# Altium integrated library 基地库3.0mini.IntLib: 84 symbols
Pins are listed as number, name and electrical type; pins without a type are passive.

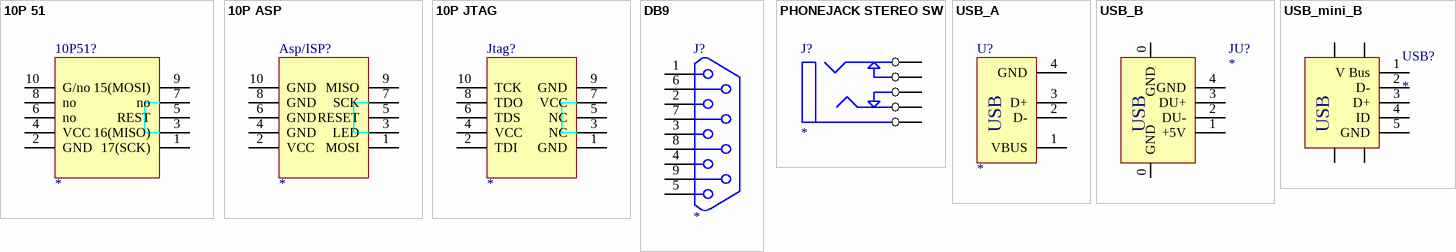
[diagram p0: symbols 10P 51 to USB_mini_B]

## 10P 51
designator 10P51?
footprint 10DIP
footprint 10TDIP
pins: 1 17(SCK), 2 GND, 3 16(MISO), 4 VCC, 5 REST, 6 no, 7 no, 8 no, 9 15(MOSI), 10 G/no

## 10P ASP
designator Asp/ISP?
footprint 10DIP
footprint 10TDIP
pins: 1 MOSI, 2 VCC, 3 LED, 4 GND, 5 RESET, 6 GND, 7 SCK, 8 GND, 9 MISO, 10 GND

## 10P JTAG
designator Jtag?
footprint 10DIP
footprint 10TDIP
pins: 1 GND, 2 TDI, 3 NC, 4 VCC, 5 NC, 6 TDS, 7 VCC, 8 TDO, 9 GND, 10 TCK

## DB9
designator J?
footprint DB9FL
pins: 1, 2, 3, 4, 5, 6, 7, 8, 9

## PHONEJACK STEREO SW
designator J?
footprint SOUND1
footprint SOUND1_B (14mm¡Á11mm)
pins: 1 A, 2 B, 3 C, 4 D, 5 E

## USB_A
designator U?
footprint USB2
pins: 1 VBUS, 2 D-, 3 D+, 4 GND
text: USB

## USB_B
designator JU?
footprint USB1
pins: 0 GND, 0 GND, 1 +5V, 2 DU-, 3 DU+, 4 GND
text: USB

## USB_mini_B
designator USB?
footprint USB_mini_B (mini USB ĸͷ)
pins: 0, 0, 0, 0, 1 V Bus, 2 D-, 3 D+, 4 ID, 5 GND
text: USB


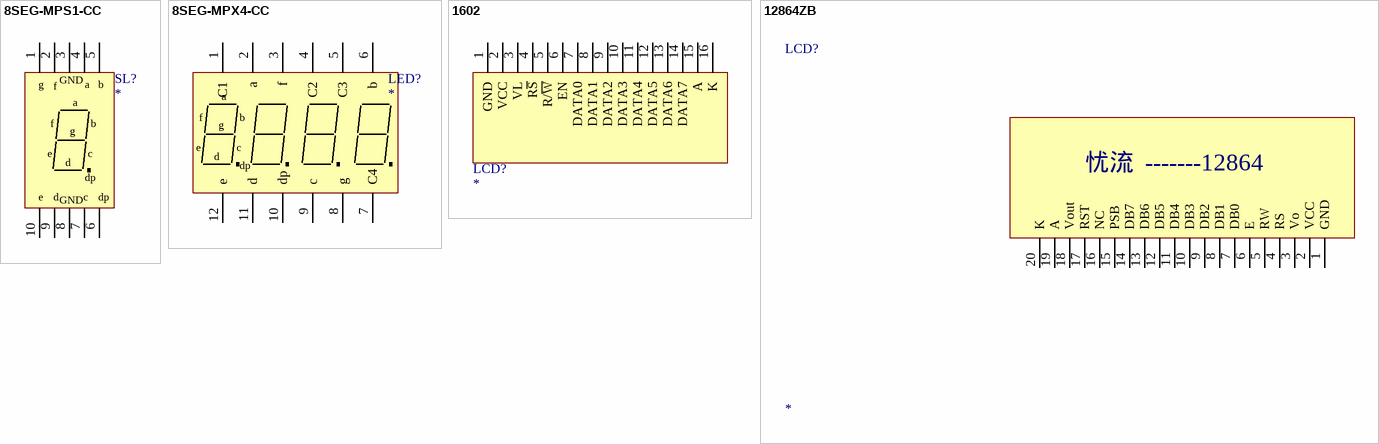
[diagram p1: symbols 8SEG-MPS1-CC to 12864ZB]

## 8SEG-MPS1-CC
designator SL?
footprint LM1
pins: 1, 2, 3, 4, 5, 6, 7, 8, 9, 10
text: GND; g; f; a; b; e; c; d; dp

## 8SEG-MPX4-CC
designator LED?
footprint 4in1
footprint 4in1B
pins: 1 C1, 2 a, 3 f, 4 C2, 5 C3, 6 b, 7 C4, 8 g, 9 c, 10 dp, 11 d, 12 e

## 1602
designator LCD?
footprint 1602
footprint 1602-1
footprint 1602A
pins: 1 GND, 2 VCC, 3 VL, 4 R~{S}, 5 R/~{W}, 6 EN, 7 DATA0, 8 DATA1, 9 DATA2, 10 DATA3, 11 DATA4, 12 DATA5, 13 DATA6, 14 DATA7, 15 A, 16 K

## 12864ZB
designator LCD?
footprint 12864ZB
pins: 1 GND, 2 VCC, 3 Vo, 4 RS, 5 RW, 6 E, 7 DB0, 8 DB1, 9 DB2, 10 DB3, 11 DB4, 12 DB5, 13 DB6, 14 DB7, 15 PSB, 16 NC, 17 RST, 18 Vout, 19 A, 20 K
text: 忧流; -------12864


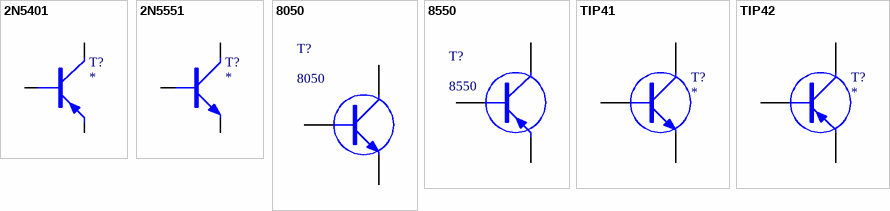
[diagram p2: symbols 2N5401 to TIP42]

## 2N5401
designator T?
PNP,小功率
footprint TO-92B
footprint TO-92A
pins: 1 E, 2 B, 3 C

## 2N5551
designator T?
NPN,小功率
footprint TO-92A
footprint TO-92B
pins: 1 E, 2 B, 3 C

## 8050
designator T?
NPN型三极管
footprint STO-23; pin to pad 1>2 2>1
footprint TO-92A
footprint TO-92B
footprint TO-92C
pins: 1 E, 2 B, 3 C

## 8550
designator T?
PNP型三极管
footprint STO-23; pin to pad 2>1 3>2
footprint TO-92A
footprint TO-92B
footprint TO-92C
pins: 1 E, 2 B, 3 C

## TIP41
designator T?
NPN PLASTIC POWER TRANSISTORS
footprint TO-220
pins: 1 B, 2 C, 3 E

## TIP42
designator T?
PNP PLASTIC POWER TRANSISTORS
footprint TO-220
pins: 1 B, 2 C, 3 E


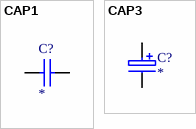
[diagram p3: symbols CAP1 to CAP3]

## CAP1
designator C?
footprint 0805 (Chip Resistor, 2-Leads, Body 2.0x1.3mm, IPC Medium Density)
footprint CAP2
footprint 0603
footprint 1206
footprint CAP4
pins: 1, 2

## CAP3
designator C?
footprint CA3216 (Molded Capacitor, 2-Leads, Body 3.3x1.7mm, IPC Medium Density)
footprint CC6032 (Molded Capacitor, 2-Leads, Body 6.1x3.3mm, IPC Medium Density)
footprint CD7343 (Molded Capacitor, 2-Leads, Body 7.4x4.3mm, IPC Medium Density)
footprint CAO1
footprint CAO2
footprint C18
footprint CT0804 (8mm×4mm,直插改表贴)
footprint C12
footprint C14
footprint C16
footprint C18
footprint C22
footprint CAO5
footprint CAO6
footprint CB3528 (Molded Capacitor, 2-Leads, Body 3.6x2.9mm, IPC Medium Density)
pins: 1, 2


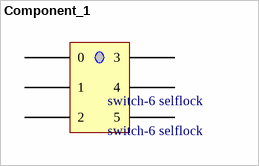
[diagram p4: symbol Component_1]

## Component_1
designator switch-6 selflock, comment switch-6 selflock
footprint switch-6 lockself
footprint switch-6 lockself
pins: 0, 1, 2, 3, 4, 5


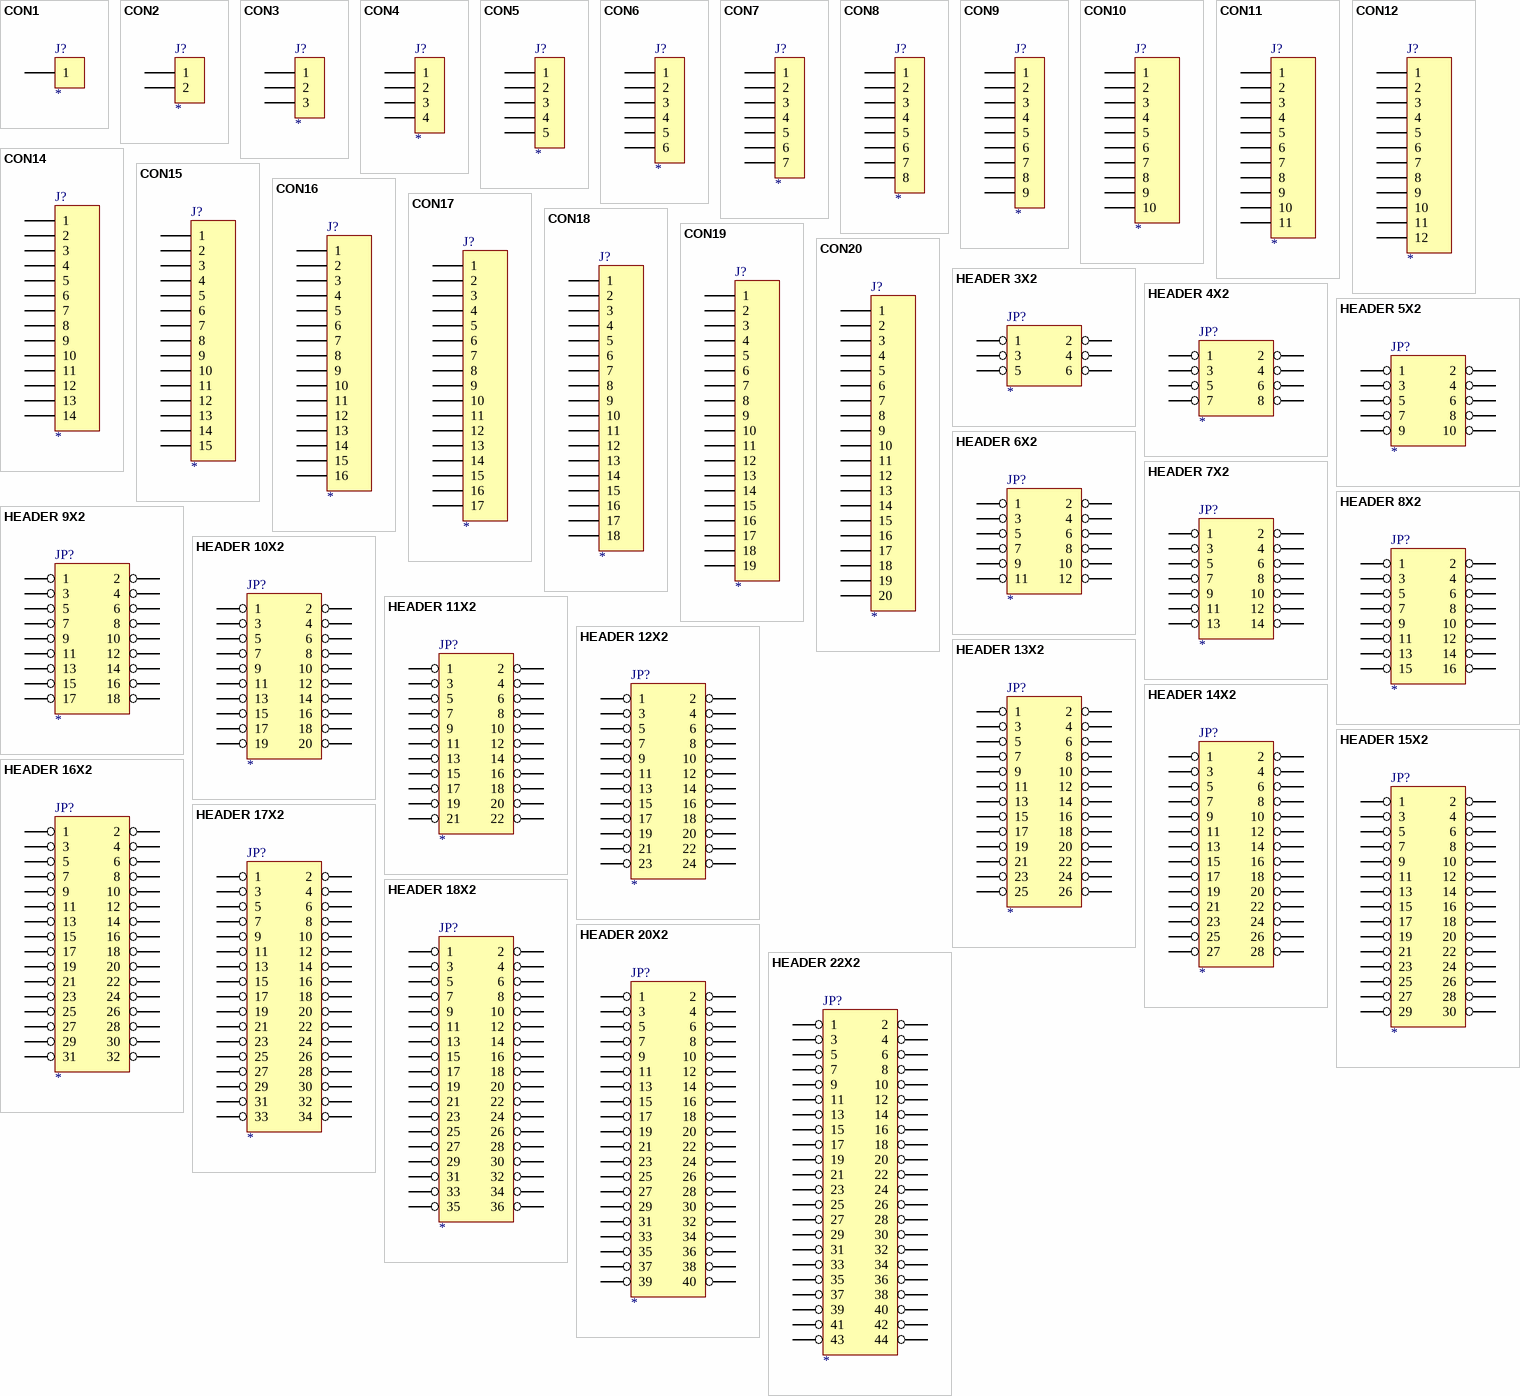
[diagram p5: symbols CON1 to HEADER 22X2]

## CON1
designator J?
Connector
footprint SIP-1
pins: 1

## CON2
designator J?
Connector
footprint sip-2
footprint 2P-200
footprint SIP-2W (7mm×5mm，白色底座)
pins: 1, 2

## CON3
designator J?
Connector
footprint sip-3
footprint SIP-3W (10mm×5mm, 白色底座)
pins: 1, 2, 3

## CON4
designator J?
Connector
footprint sip-4
pins: 1, 2, 3, 4

## CON5
designator J?
Connector
footprint sip-5
pins: 1, 2, 3, 4, 5

## CON6
designator J?
Connector
footprint sip-6
pins: 1, 2, 3, 4, 5, 6

## CON7
designator J?
Connector
footprint sip-7
pins: 1, 2, 3, 4, 5, 6, 7

## CON8
designator J?
Connector
footprint sip-8
pins: 1, 2, 3, 4, 5, 6, 7, 8

## CON9
designator J?
Connector
footprint sip-9
pins: 1, 2, 3, 4, 5, 6, 7, 8, 9

## CON10
designator J?
Connector
footprint sip-10
pins: 1, 2, 3, 4, 5, 6, 7, 8, 9, 10

## CON11
designator J?
footprint SIP-11
pins: 1, 2, 3, 4, 5, 6, 7, 8, 9, 10, 11

## CON12
designator J?
Connector
footprint sip-12
pins: 1, 2, 3, 4, 5, 6, 7, 8, 9, 10, 11, 12

## CON14
designator J?
Connector
footprint sip-14
pins: 1, 2, 3, 4, 5, 6, 7, 8, 9, 10, 11, 12, 13, 14

## CON15
designator J?
Connector
footprint sip-15
pins: 1, 2, 3, 4, 5, 6, 7, 8, 9, 10, 11, 12, 13, 14, 15

## CON16
designator J?
Connector
footprint sip-16
pins: 1, 2, 3, 4, 5, 6, 7, 8, 9, 10, 11, 12, 13, 14, 15, 16

## CON17
designator J?
Connector
footprint sip-17
pins: 1, 2, 3, 4, 5, 6, 7, 8, 9, 10, 11, 12, 13, 14, 15, 16, 17

## CON18
designator J?
Connector
footprint sip-18
pins: 1, 2, 3, 4, 5, 6, 7, 8, 9, 10, 11, 12, 13, 14, 15, 16, 17, 18

## CON19
designator J?
Connector
footprint sip-19
pins: 1, 2, 3, 4, 5, 6, 7, 8, 9, 10, 11, 12, 13, 14, 15, 16, 17, 18, 19

## CON20
designator J?
Connector
footprint sip-20
pins: 1, 2, 3, 4, 5, 6, 7, 8, 9, 10, 11, 12, 13, 14, 15, 16, 17, 18, 19, 20

## HEADER 3X2
designator JP?
footprint IDC6
footprint IDC-6
pins: 1, 2, 3, 4, 5, 6

## HEADER 4X2
designator JP?
footprint IDC8
footprint IDC-8
pins: 1, 2, 3, 4, 5, 6, 7, 8

## HEADER 5X2
designator JP?
footprint IDC10
footprint IDC-10
pins: 1, 2, 3, 4, 5, 6, 7, 8, 9, 10

## HEADER 6X2
designator JP?
footprint IDC12
footprint IDC-12
pins: 1, 2, 3, 4, 5, 6, 7, 8, 9, 10, 11, 12

## HEADER 7X2
designator JP?
footprint IDC-14
footprint IDC14
pins: 1, 2, 3, 4, 5, 6, 7, 8, 9, 10, 11, 12, 13, 14

## HEADER 8X2
designator JP?
footprint IDC16
footprint IDC-16
pins: 1, 2, 3, 4, 5, 6, 7, 8, 9, 10, 11, 12, 13, 14, 15, 16

## HEADER 9X2
designator JP?
footprint IDC18
footprint IDC-18
pins: 1, 2, 3, 4, 5, 6, 7, 8, 9, 10, 11, 12, 13, 14, 15, 16, 17, 18

## HEADER 10X2
designator JP?
footprint IDC20
footprint IDC-20
pins: 1, 2, 3, 4, 5, 6, 7, 8, 9, 10, 11, 12, 13, 14, 15, 16, 17, 18, 19, 20

## HEADER 11X2
designator JP?
footprint IDC22
footprint IDC-22
pins: 1, 2, 3, 4, 5, 6, 7, 8, 9, 10, 11, 12, 13, 14, 15, 16, 17, 18, 19, 20, 21, 22

## HEADER 12X2
designator JP?
footprint IDC24
footprint IDC-24
pins: 1, 2, 3, 4, 5, 6, 7, 8, 9, 10, 11, 12, 13, 14, 15, 16, 17, 18, 19, 20, 21, 22, 23, 24

## HEADER 13X2
designator JP?
footprint IDC26
footprint IDC-26
pins: 1, 2, 3, 4, 5, 6, 7, 8, 9, 10, 11, 12, 13, 14, 15, 16, 17, 18, 19, 20, 21, 22, 23, 24, 25, 26

## HEADER 14X2
designator JP?
footprint IDC28
footprint IDC-28
pins: 1, 2, 3, 4, 5, 6, 7, 8, 9, 10, 11, 12, 13, 14, 15, 16, 17, 18, 19, 20, 21, 22, 23, 24, 25, 26, 27, 28

## HEADER 15X2
designator JP?
footprint IDC30
footprint IDC-30
pins: 1, 2, 3, 4, 5, 6, 7, 8, 9, 10, 11, 12, 13, 14, 15, 16, 17, 18, 19, 20, 21, 22, 23, 24, 25, 26, 27, 28, 29, 30

## HEADER 16X2
designator JP?
footprint IDC32
footprint IDC-32
pins: 1, 2, 3, 4, 5, 6, 7, 8, 9, 10, 11, 12, 13, 14, 15, 16, 17, 18, 19, 20, 21, 22, 23, 24, 25, 26, 27, 28, 29, 30, 31, 32

## HEADER 17X2
designator JP?
footprint IDC34
footprint IDC-34
pins: 1, 2, 3, 4, 5, 6, 7, 8, 9, 10, 11, 12, 13, 14, 15, 16, 17, 18, 19, 20, 21, 22, 23, 24, 25, 26, 27, 28, 29, 30, 31, 32, 33, 34

## HEADER 18X2
designator JP?
footprint IDC36
footprint IDC-36
pins: 1, 2, 3, 4, 5, 6, 7, 8, 9, 10, 11, 12, 13, 14, 15, 16, 17, 18, 19, 20, 21, 22, 23, 24, 25, 26, 27, 28, 29, 30, 31, 32, 33, 34, 35, 36

## HEADER 20X2
designator JP?
footprint IDC40
footprint IDC-40
pins: 1, 2, 3, 4, 5, 6, 7, 8, 9, 10, 11, 12, 13, 14, 15, 16, 17, 18, 19, 20, 21, 22, 23, 24, 25, 26, 27, 28, 29, 30, 31, 32, 33, 34, 35, 36, 37, 38, 39, 40

## HEADER 22X2
designator JP?
footprint IDC44
footprint IDC-44
pins: 1, 2, 3, 4, 5, 6, 7, 8, 9, 10, 11, 12, 13, 14, 15, 16, 17, 18, 19, 20, 21, 22, 23, 24, 25, 26, 27, 28, 29, 30, 31, 32, 33, 34, 35, 36, 37, 38, 39, 40, 41, 42, 43, 44


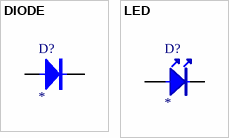
[diagram p6: symbols DIODE to LED]

## DIODE
designator D?
footprint DIODE0.4
footprint DIODE0.2
footprint D1206 (Molded Diode, 2-Leads, Body 5.0x2.7mm, IPC Medium Density)
footprint DIODE0.7
pins: 1, 2

## LED
designator D?
footprint LED2_B (5mm)
footprint LED1_B (3mm)
footprint LED_1206
footprint LED_0805
pins: 1, 2


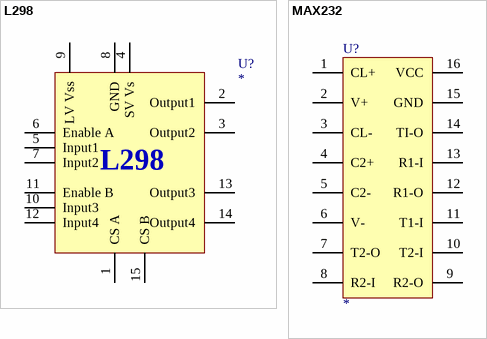
[diagram p7: symbols L298 to MAX232]

## L298
designator U?
DUAL FULL-BRIDGE DRIVER
footprint Multiwatt15 V
pins: 1 CS A, 2 Output1, 3 Output2, 4 SV Vs, 5 Input1, 6 Enable A, 7 Input2, 8 GND, 9 LV Vss, 10 Input3, 11 Enable B, 12 Input4, 13 Output3, 14 Output4, 15 CS B

## MAX232
designator U?
footprint DIP-16
pins: 1 CL+, 2 V+, 3 CL-, 4 C2+, 5 C2-, 6 V-, 7 T2-O, 8 R2-I, 9 R2-O, 10 T2-I, 11 T1-I, 12 R1-O, 13 R1-I, 14 TI-O, 15 GND, 16 VCC


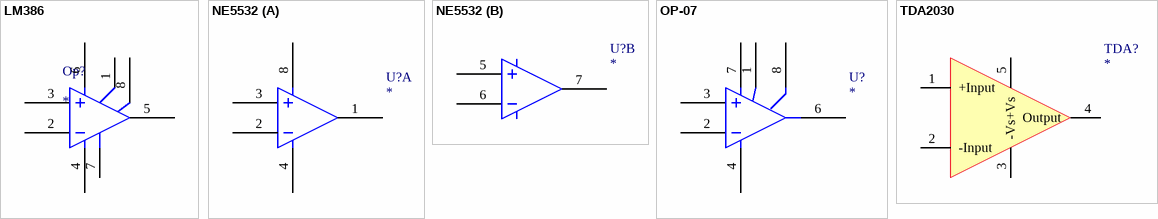
[diagram p8: symbols LM386 to TDA2030]

## LM386
designator Op?
Low Voltage Audio Power Amplifier
footprint DIP-8
footprint SOIC-8
pins: 1 GAIN, 2, 3, 4 GND (power), 5 Vout, 6 Vs "正电源，4-18V", 7 Bypass, 8 GAIN

## NE5532
designator U?
OPA2134: The OPA134 series are ultra-low distortion, low noise  operational amplifiers fully specified for audio appli-  cations. A true FET input stage was incorporated to  provide superior sound quality and speed for excep-  tional audio performance.
footprint DIP-8
footprint SOIC-8
part A pins: 1, 2, 3, 4, 8
part B pins: 5, 6, 7

## OP-07
designator U?
footprint DIP-8
pins: 1, 2, 3, 4, 6, 7, 8

## TDA2030
designator TDA?
footprint TDA5
pins: 1 +Input, 2 -Input, 3 -Vs, 4 Output, 5 +Vs


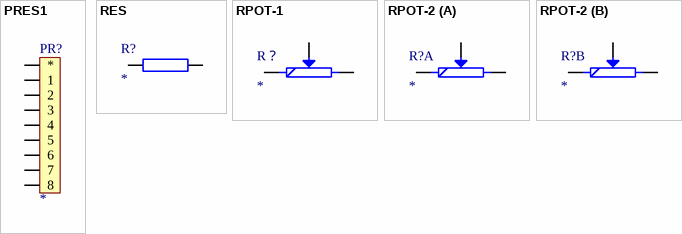
[diagram p9: symbols PRES1 to RPOT-2]

## PRES1
designator PR?
footprint RP1
pins: 1 *, 2 1, 3 2, 4 3, 5 4, 6 5, 7 6, 8 7, 9 8

## RES
designator R?
电阻
footprint 0603
footprint 0805
footprint 1206
footprint AXIAL0.4
footprint AXIAL0.5
footprint AXIAL0.6
pins: 1, 2

## RPOT-1
designator R？
普通电位器
footprint RVR-A
footprint RVR-7
footprint RVR-4 (Top Preset Potentiometer,3296W)
footprint RVR-2
pins: 1, 2 M, 3

## RPOT-2
designator R?
双联电位器
footprint RVR-B
part A pins: 1, 2 W, 3
part B pins: 1, 2 W, 3


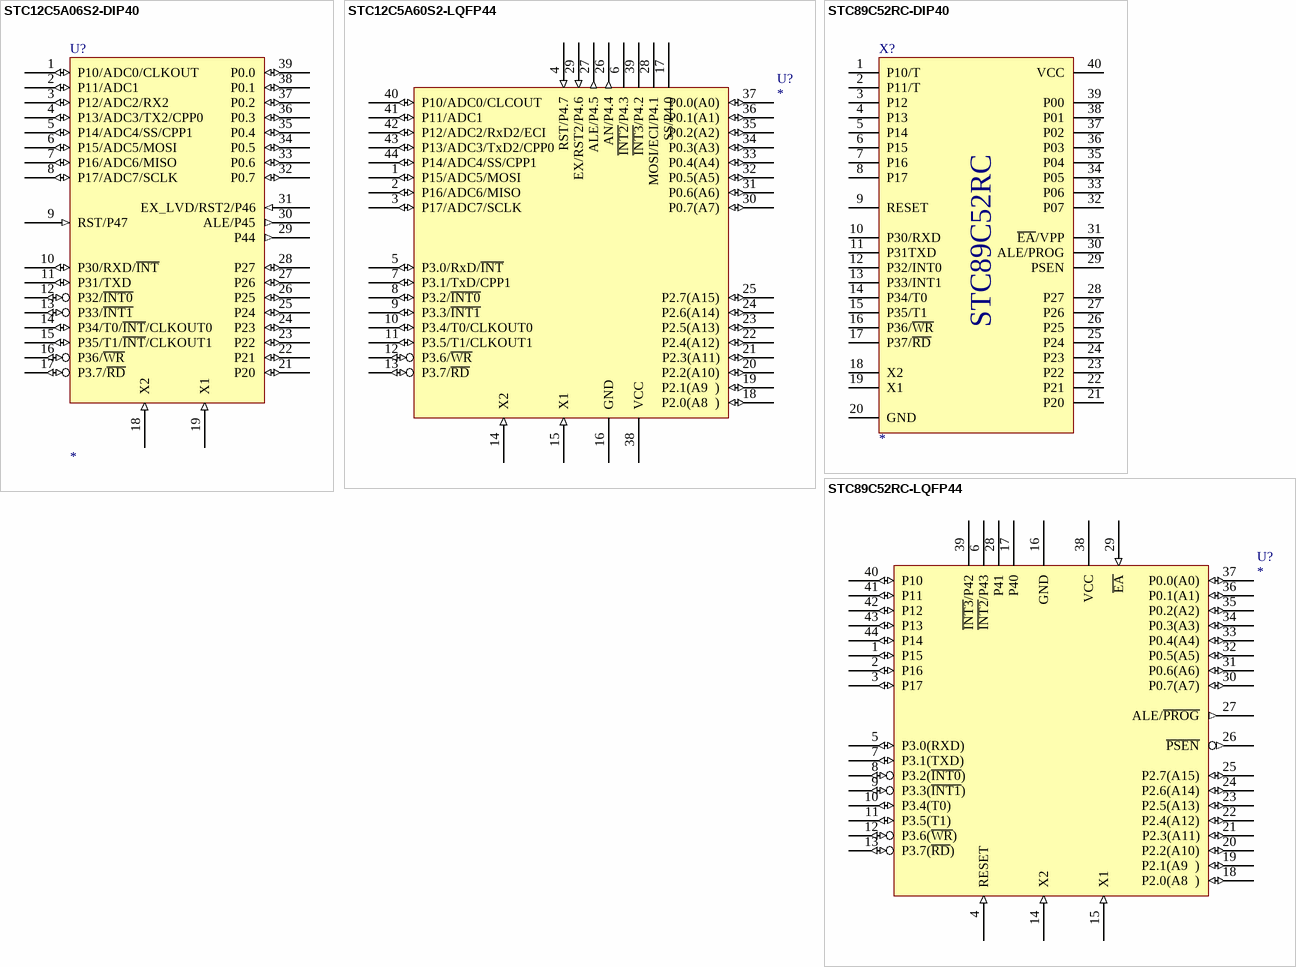
[diagram p10: symbols STC12C5A06S2-DIP40 to STC89C52RC-LQFP44]

## STC12C5A06S2-DIP40
designator U?
footprint DIP-40
pins: 1 P10/ADC0/CLKOUT (io), 2 P11/ADC1 (io), 3 P12/ADC2/RX2 (io), 4 P13/ADC3/TX2/CPP0 (io), 5 P14/ADC4/SS/CPP1 (io), 6 P15/ADC5/MOSI (io), 7 P16/ADC6/MISO (io), 8 P17/ADC7/SCLK (io), 9 RST/P47 (in), 10 P30/RXD/~{INT} (io), 11 P31/TXD (io), 12 P32/~{INT0} (io), 13 P33/~{INT1} (io), 14 P34/T0/~{INT}/CLKOUT0 (io), 15 P35/T1/~{INT}/CLKOUT1 (io), 16 P36/~{WR} (io), 17 P3.7/~{RD} (io), 18 X2 (in), 19 X1 (in), 20 GND (power) hidden to GND, 21 P20 (io), 22 P21 (io), 23 P22 (io), 24 P23 (io), 25 P24 (io), 26 P25 (io), 27 P26 (io), 28 P27 (io), 29 P44 (out), 30 ALE/P45 (out), 31 EX_LVD/RST2/P46 (in), 32 P0.7 (io), 33 P0.6 (io), 34 P0.5 (io), 35 P0.4 (io), 36 P0.3 (io), 37 P0.2 (io), 38 P0.1 (io), 39 P0.0 (io), 40 VCC (power) hidden to VCC

## STC12C5A60S2-LQFP44
designator U?
footprint TQFP-44
pins: 1 P15/ADC5/MOSI (io), 2 P16/ADC6/MISO (io), 3 P17/ADC7/SCLK (io), 4 RST/P4.7 (in), 5 P3.0/RxD/~{INT} (io), 6 ~{INT2}/P4.3, 7 P3.1/TxD/CPP1 (io), 8 P3.2/~{INT0} (io), 9 P3.3/~{INT1} (io), 10 P3.4/T0/CLKOUT0 (io), 11 P3.5/T1/CLKOUT1 (io), 12 P3.6/~{WR} (io), 13 P3.7/~{RD} (io), 14 X2 (in), 15 X1 (in), 16 GND, 17 SS/P4.0, 18 P2.0(A8  ) (io), 19 P2.1(A9  ) (io), 20 P2.2(A10) (io), 21 P2.3(A11) (io), 22 P2.4(A12) (io), 23 P2.5(A13) (io), 24 P2.6(A14) (io), 25 P2.7(A15) (io), 26 AN/P4.4 (out), 27 ALE/P4.5 (out), 28 MOSI/ECI/P4.1, 29 EX/RST2/P4.6 (in), 30 P0.7(A7) (io), 31 P0.6(A6) (io), 32 P0.5(A5) (io), 33 P0.4(A4) (io), 34 P0.3(A3) (io), 35 P0.2(A2) (io), 36 P0.1(A1) (io), 37 P0.0(A0) (io), 38 VCC, 39 ~{INT3}/P4.2, 40 P10/ADC0/CLCOUT (io), 41 P11/ADC1 (io), 42 P12/ADC2/RxD2/ECI (io), 43 P13/ADC3/TxD2/CPP0 (io), 44 P14/ADC4/SS/CPP1 (io)

## STC89C52RC-DIP40
designator X?
footprint DIP-40
pins: 1 P10/T, 2 P11/T, 3 P12, 4 P13, 5 P14, 6 P15, 7 P16, 8 P17, 9 RESET, 10 P30/RXD, 11 P31TXD, 12 P32/INT0, 13 P33/INT1, 14 P34/T0, 15 P35/T1, 16 P36/~{WR}, 17 P37/~{RD}, 18 X2, 19 X1, 20 GND, 21 P20, 22 P21, 23 P22, 24 P23, 25 P24, 26 P25, 27 P26, 28 P27, 29 PSEN, 30 ALE/PROG, 31 ~{EA}/VPP, 32 P07, 33 P06, 34 P05, 35 P04, 36 P03, 37 P02, 38 P01, 39 P00, 40 VCC
text: STC89C52RC

## STC89C52RC-LQFP44
designator U?
footprint TQFP-44
pins: 1 P15 (io), 2 P16 (io), 3 P17 (io), 4 RESET (in), 5 P3.0(RXD) (io), 6 ~{INT2}/P43, 7 P3.1(TXD) (io), 8 P3.2(~{INT0}) (io), 9 P3.3(~{INT1}) (io), 10 P3.4(T0) (io), 11 P3.5(T1) (io), 12 P3.6(~{WR}) (io), 13 P3.7(~{RD}) (io), 14 X2 (in), 15 X1 (in), 16 GND, 17 P40, 18 P2.0(A8  ) (io), 19 P2.1(A9  ) (io), 20 P2.2(A10) (io), 21 P2.3(A11) (io), 22 P2.4(A12) (io), 23 P2.5(A13) (io), 24 P2.6(A14) (io), 25 P2.7(A15) (io), 26 ~{PSEN} (out), 27 ALE/~{PROG} (out), 28 P41, 29 ~{EA} (in), 30 P0.7(A7) (io), 31 P0.6(A6) (io), 32 P0.5(A5) (io), 33 P0.4(A4) (io), 34 P0.3(A3) (io), 35 P0.2(A2) (io), 36 P0.1(A1) (io), 37 P0.0(A0) (io), 38 VCC, 39 ~{INT3}/P42, 40 P10 (io), 41 P11 (io), 42 P12 (io), 43 P13 (io), 44 P14 (io)


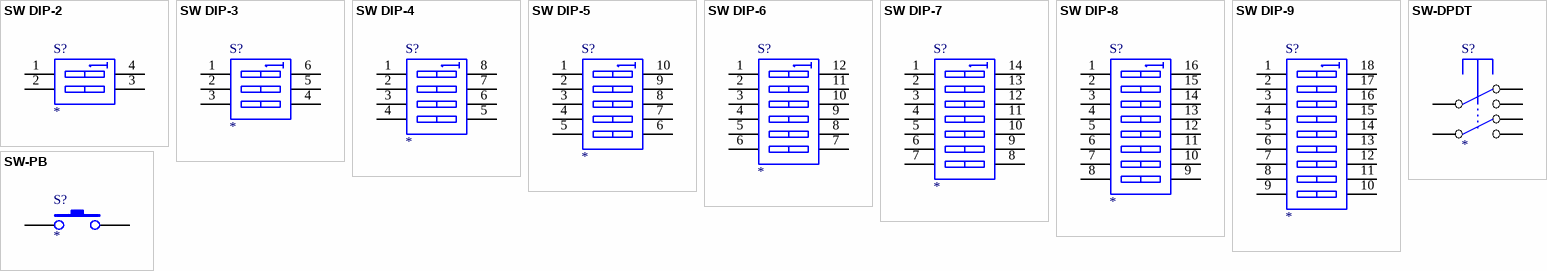
[diagram p11: symbols SW DIP-2 to SW-PB]

## SW DIP-2
designator S?
DIP Switch
footprint DIP-4
pins: 1 A1, 2 A2, 3 B2, 4 B1

## SW DIP-3
designator S?
DIP Switch
footprint DIP-6
pins: 1 A1, 2 A2, 3 A3, 4 B3, 5 B2, 6 B1

## SW DIP-4
designator S?
DIP Switch
footprint DIP-8
pins: 1 A1, 2 A2, 3 A3, 4 A4, 5 B4, 6 B3, 7 B2, 8 B1

## SW DIP-5
designator S?
DIP Switch
footprint DIP-10
pins: 1 A1, 2 A2, 3 A3, 4 A4, 5 A5, 6 B5, 7 B4, 8 B3, 9 B2, 10 B1

## SW DIP-6
designator S?
DIP Switch
footprint DIP-12
pins: 1 A1, 2 A2, 3 A3, 4 A4, 5 A5, 6 A6, 7 B6, 8 B5, 9 B4, 10 B3, 11 B2, 12 B1

## SW DIP-7
designator S?
DIP Switch
footprint DIP-14
pins: 1 A1, 2 A2, 3 A3, 4 A4, 5 A5, 6 A6, 7 A7, 8 B7, 9 B6, 10 B5, 11 B4, 12 B3, 13 B2, 14 B1

## SW DIP-8
designator S?
DIP Switch
footprint DIP-16
pins: 1 A1, 2 A2, 3 A3, 4 A4, 5 A5, 6 A6, 7 A7, 8 A8, 9 B8, 10 B7, 11 B6, 12 B5, 13 B4, 14 B3, 15 B2, 16 B1

## SW DIP-9
designator S?
DIP Switch
footprint DIP-18
pins: 1 A1, 2 A2, 3 A3, 4 A4, 5 A5, 6 A6, 7 A7, 8 A8, 9 A9, 10 B9, 11 B8, 12 B7, 13 B6, 14 B5, 15 B4, 16 B3, 17 B2, 18 B1

## SW-DPDT
designator S?
footprint SWH7*7
footprint SWH8*8
pins: 1, 2, 3, 4, 5, 6

## SW-PB
designator S?
footprint SW6*6
footprint SWT6*3
footprint SW12*12
footprint SWT5*5
footprint KEY-TH_4P-L6.0-W6.0-P4.50-LS7.5
pins: 1, 2